# Altium schematic symbol library 51单片机全原理图库.SchLib: 4 symbols
Pins are listed as number, name and electrical type; pins without a type are passive.

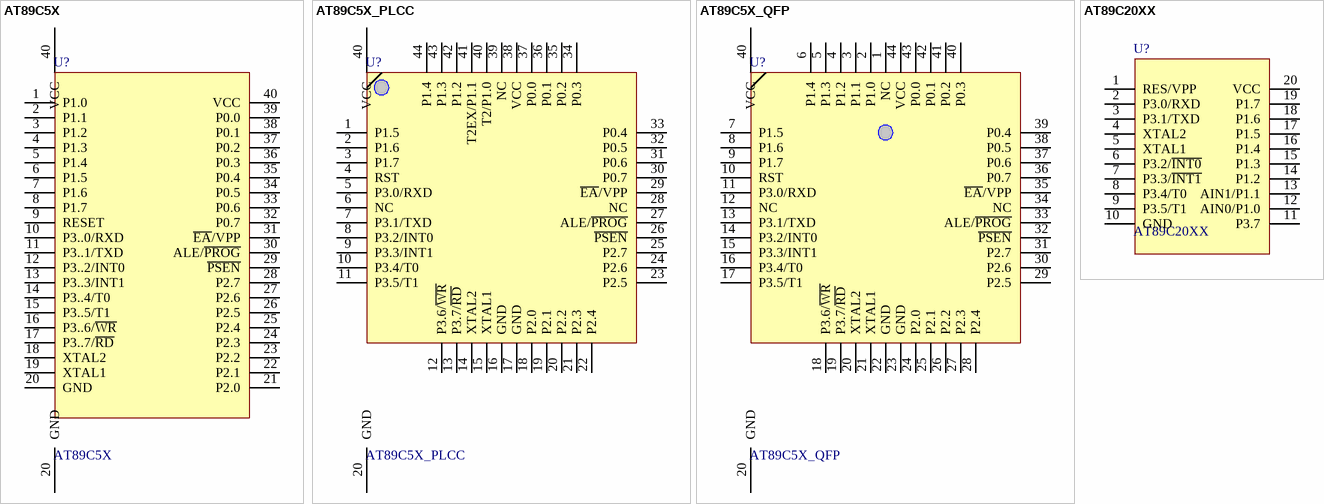
[diagram p0: symbols AT89C5X to AT89C20XX]

## AT89C5X
designator U?
40P 끽방 DIP
footprint DIP-40
pins: 1 P1.0, 2 P1.1, 3 P1.2, 4 P1.3, 5 P1.4, 6 P1.5, 7 P1.6, 8 P1.7, 9 RESET, 10 P3..0/RXD, 11 P3..1/TXD, 12 P3..2/INT0, 13 P3..3/INT1, 14 P3..4/T0, 15 P3..5/T1, 16 P3..6/~{WR}, 17 P3..7/~{RD}, 18 XTAL2, 19 XTAL1, 20 GND (power) hidden to GND, 20 GND, 21 P2.0, 22 P2.1, 23 P2.2, 24 P2.3, 25 P2.4, 26 P2.5, 27 P2.6, 28 P2.7, 29 ~{PSEN}, 30 ALE/~{PROG}, 31 ~{EA}/VPP, 32 P0.7, 33 P0.6, 34 P0.5, 35 P0.4, 36 P0.3, 37 P0.2, 38 P0.1, 39 P0.0, 40 VCC (power) hidden to VCC, 40 VCC

## AT89C5X_PLCC
designator U?
44P 끽방 PLCC
pins: 1 P1.5, 2 P1.6, 3 P1.7, 4 RST, 5 P3.0/RXD, 6 NC, 7 P3.1/TXD, 8 P3.2/INT0, 9 P3.3/INT1, 10 P3.4/T0, 11 P3.5/T1, 12 P3.6/~{WR}, 13 P3.7/~{RD}, 14 XTAL2, 15 XTAL1, 16 GND, 17 GND, 18 P2.0, 19 P2.1, 20 GND (power) hidden to GND, 20 P2.2, 21 P2.3, 22 P2.4, 23 P2.5, 24 P2.6, 25 P2.7, 26 ~{PSEN}, 27 ALE/~{PROG}, 28 NC, 29 ~{EA}/VPP, 30 P0.7, 31 P0.6, 32 P0.5, 33 P0.4, 34 P0.3, 35 P0.2, 36 P0.1, 37 P0.0, 38 VCC, 39 NC, 40 VCC (power) hidden to VCC, 40 T2/P1.0, 41 T2EX/P1.1, 42 P1.2, 43 P1.3, 44 P1.4

## AT89C5X_QFP
designator U?
44P 끽방 TQFP44/PQFP
pins: 1 NC, 2 P1.0, 3 P1.1, 4 P1.2, 5 P1.3, 6 P1.4, 7 P1.5, 8 P1.6, 9 P1.7, 10 RST, 11 P3.0/RXD, 12 NC, 13 P3.1/TXD, 14 P3.2/INT0, 15 P3.3/INT1, 16 P3.4/T0, 17 P3.5/T1, 18 P3.6/~{WR}, 19 P3.7/~{RD}, 20 GND (power) hidden to GND, 20 XTAL2, 21 XTAL1, 22 GND, 23 GND, 24 P2.0, 25 P2.1, 26 P2.2, 27 P2.3, 28 P2.4, 29 P2.5, 30 P2.6, 31 P2.7, 32 ~{PSEN}, 33 ALE/~{PROG}, 34 NC, 35 ~{EA}/VPP, 36 P0.7, 37 P0.6, 38 P0.5, 39 P0.4, 40 VCC (power) hidden to VCC, 40 P0.3, 41 P0.2, 42 P0.1, 43 P0.0, 44 VCC

## AT89C20XX
designator U?
20P끽방 DIP/SOP20
footprint DIP-20
pins: 1 RES/VPP, 2 P3.0/RXD, 3 P3.1/TXD, 4 XTAL2, 5 XTAL1, 6 P3.2/~{INT0}, 7 P3.3/~{INT1}, 8 P3.4/T0, 9 P3.5/T1, 10 GND, 11 P3.7, 12 AIN0/P1.0, 13 AIN1/P1.1, 14 P1.2, 15 P1.3, 16 P1.4, 17 P1.5, 18 P1.6, 19 P1.7, 20 VCC